# Altium footprint library SOIC-8NB.PcbLib: 1 footprints
Each footprint in its own frame and in the unit in brackets; x right, y up, seen from the top. Pads: shape width x height; smd on the part's side, far side on the other; paste and mask are expansions set on the pad; w line width, h text height; cw(c..) or ccw(c..) is an arc to the next point about the centre after c.
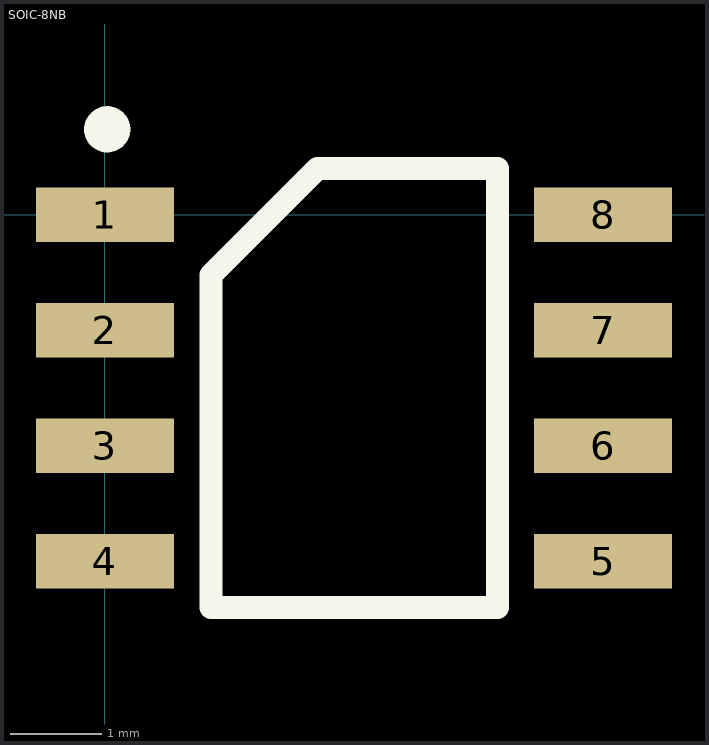
[diagram p0: the footprint, top view; thin cyan lines are the x and y axes]

## SOIC-8NB [mm]
pads (8):
  rect 1.52x0.6 smd: 1(0,0) 2(0,-1.27) 3(0,-2.54) 4(0,-3.81) 5(5.48,-3.81) 6(5.48,-2.54) 7(5.48,-1.27) 8(5.48,0)
Top Overlay:
  circle w0.254: c0.025,0.94 r0.127
  lines w0.254: 1.168,-4.318 4.318,-4.318 4.318,0.508 2.337,0.508 1.168,-0.66 1.168,-4.318
3D body "SO8 Narrow 3.9mm.step": height 1.35, standoff 0, extent -0.171,-4.355 5.809,0.545